# EAGLE library part SERIAL_HEADER (library Cing Library)
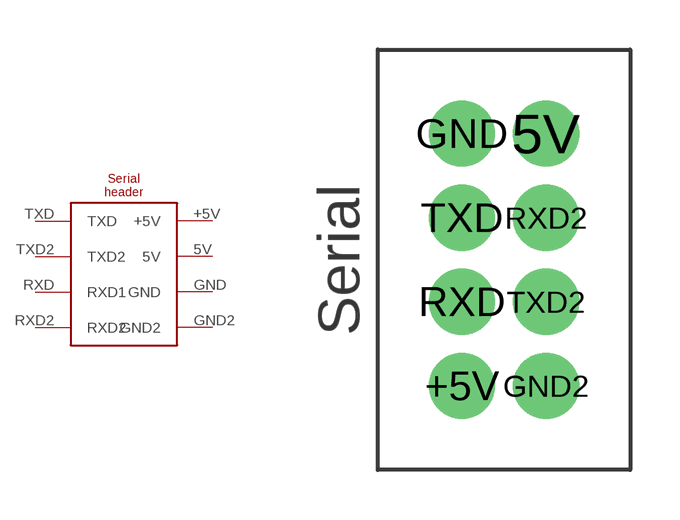
[diagram p9: symbol with the pads of SERIAL_HEADER; footprint SERIAL_HEADER]

Designator prefix -

## SERIAL_HEADER  [SERIAL_HEADER]
5V  5V
+5V  +5V
GND  GND
GND2  GND2
RXD  RXD1
RXD2  RXD2
TXD  TXD
TXD2  TXD2

## Footprint SERIAL_HEADER (pad centres in mm)
drill 1 pad 2: 5V 1.27,3.81; +5V -1.27,-3.81; GND -1.27,3.81; GND2 1.27,-3.81; RXD -1.27,-1.27; RXD2 1.27,1.27; TXD -1.27,1.27; TXD2 1.27,-1.27